# Altium integrated library 74HC4050D_653.IntLib: 1 symbol
Pins are listed as number, name and electrical type; pins without a type are passive.

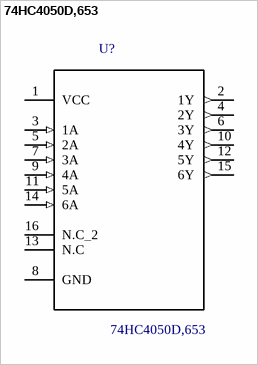
[diagram p0: symbol 74HC4050D,653]

## 74HC4050D,653
designator U?
IC HEX LEVEL SHIFTER 16SOIC; MF: Nexperia; Availability: Good; MP: 74HC4050D,653; Price: 0.23 USD; Package: SO-16 Nexperia; Value: *
footprint SOIC127P600X175-16N
pins: 1 VCC (power), 2 1Y (out), 3 1A (in), 4 2Y (out), 5 2A (in), 6 3Y (out), 7 3A (in), 8 GND, 9 4A (in), 10 4Y (out), 11 5A (in), 12 5Y (out), 13 N.C, 14 6A (in), 15 6Y (out), 16 N.C_2